# EAGLE library part LTC-4724JR (library innove-leds)
Lite-On LTC-424JR Triple Digit LED Numeric Display (cathode common) The LTC-4724JR inch (10.0 mm) digit height triple digit seven-segment display. This device utilizes AlInGaP super red LED chips, which are made from AlInGaP on a non-transparent GaAs substrate, and has a gray face and white segments. Datasheet <https://optoelectronics.liteon.com/upload/download/DS30-2000-188/LTC-4724JR_new.PDF>
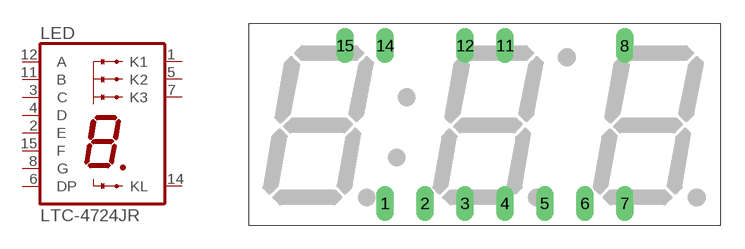
[diagram p1: symbol with the pads of LTC-4724JR; footprint LTC-4724JR]

Designator prefix LED

## LTC-4724JR  [LTC-4724JR]
1  K1
2  E
3  C
4  D
5  K2
6  DP
7  K3
8  G
11  B
12  A
14  KL
15  F

## Footprint LTC-4724JR (pad centres in mm)
drill 0.6 long: 1 8.66,1.4; 2 11.2,1.4; 3 13.74,1.4; 4 16.28,1.4; 5 18.82,1.4; 6 21.36,1.4; 7 23.9,1.4; 8 23.9,11.4; 11 16.28,11.4; 12 13.74,11.4; 14 8.66,11.4; 15 6.12,11.4